# Altium footprint library SOIC127P1030X265-18N.PcbLib: 1 footprints
Each footprint in its own frame and in the unit in brackets; x right, y up, seen from the top. Pads: shape width x height; smd on the part's side, far side on the other; paste and mask are expansions set on the pad; w line width, h text height; cw(c..) or ccw(c..) is an arc to the next point about the centre after c.
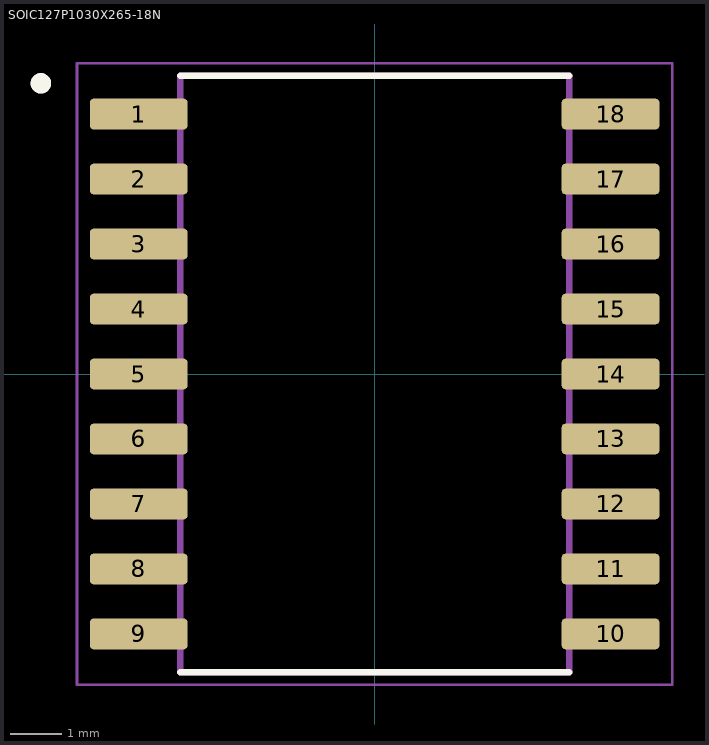
[diagram p0: the footprint, top view; thin cyan lines are the x and y axes]

## SOIC127P1030X265-18N [mm]
pads (18):
  rrect25% 1.91x0.6 smd: 1(-4.61,5.08) 2(-4.61,3.81) 3(-4.61,2.54) 4(-4.61,1.27) 5(-4.61,0) 6(-4.61,-1.27) 7(-4.61,-2.54) 8(-4.61,-3.81) 9(-4.61,-5.08) 10(4.61,-5.08) 11(4.61,-3.81) 12(4.61,-2.54) 13(4.61,-1.27) 14(4.61,0) 15(4.61,1.27) 16(4.61,2.54) 17(4.61,3.81) 18(4.61,5.08)
Top Overlay:
  circle w0.2: c-6.52,5.68 r0.1
  lines w0.127: -3.8,-5.825 3.8,-5.825 ; -3.8,5.825 3.8,5.825
Assembly Top:
  circle w0.2: c-6.52,5.68 r0.1
  lines w0.127: -3.8,-5.825 -3.8,5.825 3.8,5.825 3.8,-5.825 -3.8,-5.825
Courtyard Top:
  lines w0.05: -5.815,-6.075 -5.815,6.075 5.815,6.075 5.815,-6.075 -5.815,-6.075
3D body "step_temp.STEP": height 2.65, standoff 0, extent -5.15,-5.775 5.15,5.775